# Altium footprint library EE_smallOB_BW_v1.0.PcbLib: 38 footprints (part 1 of 3)
Each footprint in its own frame and in the unit in brackets; x right, y up, seen from the top. Pads: shape width x height; smd on the part's side, far side on the other; paste and mask are expansions set on the pad; w line width, h text height; cw(c..) or ccw(c..) is an arc to the next point about the centre after c.
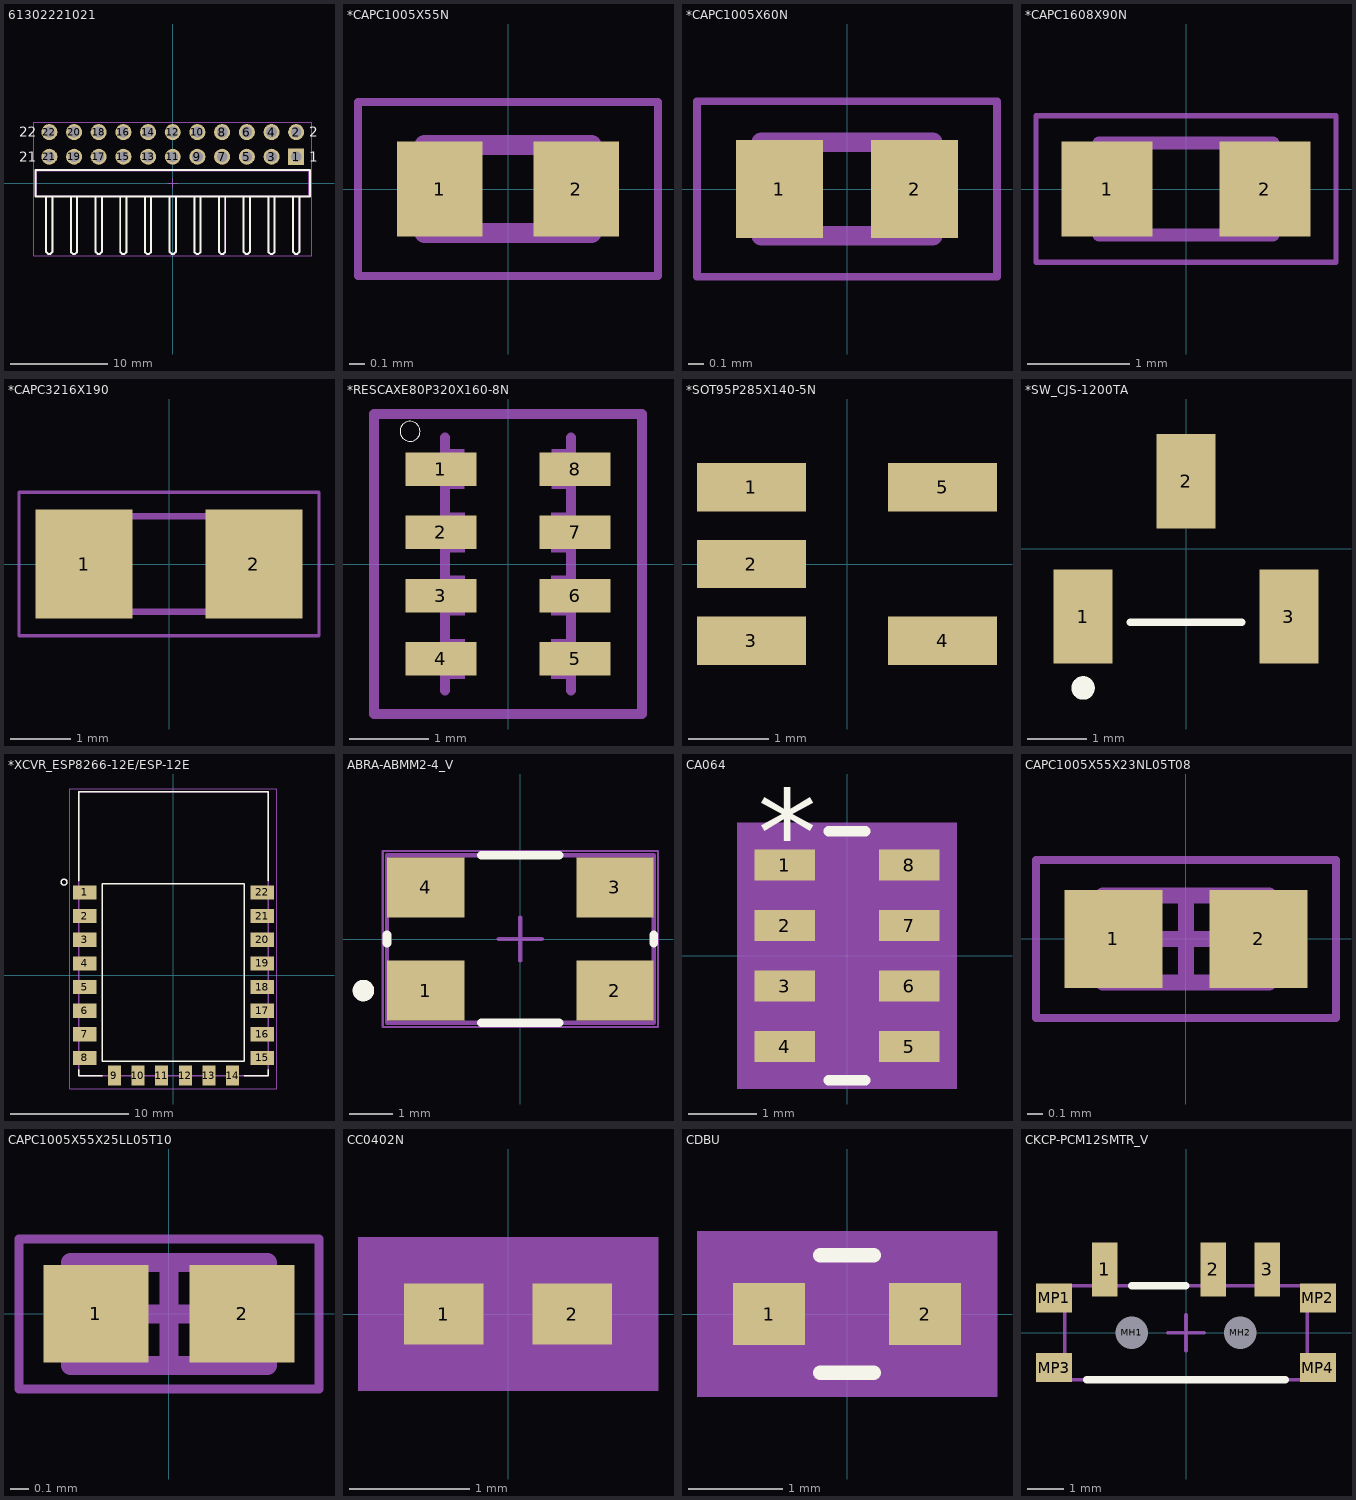
[diagram p0: the footprints below, top view; thin cyan lines are the x and y axes]

## 61302221021 [mm] "Pin Header, pitch 2.54 mm, THT, Angled, dual row, 22p"
height 5.08
pads (22):
  rect 1.65x1.65 hole 1.1: 1(12.7,2.73)
  round 1.65 hole 1.1: 2(12.7,5.27) 3(10.16,2.73) 4(10.16,5.27) 5(7.62,2.73) 6(7.62,5.27) 7(5.08,2.73) 8(5.08,5.27) 9(2.54,2.73) 10(2.54,5.27) 11(0,2.73) 12(0,5.27) 13(-2.54,2.73) 14(-2.54,5.27) 15(-5.08,2.73) 16(-5.08,5.27) 17(-7.62,2.73) 18(-7.62,5.27) 19(-10.16,2.73) 20(-10.16,5.27) 21(-12.7,2.73) 22(-12.7,5.27)
Top Overlay:
  lines w0.2: -13.02,-1.345 -13.02,-7.07 -12.82,-7.27 -12.58,-7.27 -12.38,-7.07 -12.38,-1.345 ; -10.48,-1.345 -10.48,-7.07 -10.28,-7.27 -10.04,-7.27 -9.84,-7.07 -9.84,-1.345 ; -7.94,-1.345 -7.94,-7.07 -7.74,-7.27 -7.5,-7.27 -7.3,-7.07 -7.3,-1.345 ; -5.4,-1.345 -5.4,-7.07 -5.2,-7.27 -4.96,-7.27 -4.76,-7.07 -4.76,-1.345 ; -2.86,-1.345 -2.86,-7.07 -2.66,-7.27 -2.42,-7.27 -2.22,-7.07 -2.22,-1.345 ; -0.32,-1.345 -0.32,-7.07 -0.12,-7.27 0.12,-7.27 0.32,-7.07 0.32,-1.345 ; 2.22,-1.345 2.22,-7.07 2.42,-7.27 2.66,-7.27 2.86,-7.07 2.86,-1.345 ; 4.76,-1.345 4.76,-7.07 4.96,-7.27 5.2,-7.27 5.4,-7.07 5.4,-1.345 ; 7.3,-1.345 7.3,-7.07 7.5,-7.27 7.74,-7.27 7.94,-7.07 7.94,-1.345 ; 9.84,-1.345 9.84,-7.07 10.04,-7.27 10.28,-7.27 10.48,-7.07 10.48,-1.345 ; 12.38,-1.345 12.38,-7.07 12.58,-7.27 12.82,-7.27 13.02,-7.07 13.02,-1.345 ; -14.12,-1.345 -14.12,1.345 14.12,1.345 14.12,-1.345 -14.12,-1.345
  text "21" at -15.82,2.2 h1.02
  text "22" at -15.82,4.8 h1.02
  text "1" at 14.03,2.2 h1.02
  text "2" at 14.03,4.8 h1.02
Mechanical 13:
  lines w0.1: -13.02,-1.27 -13.02,-7.07 -12.82,-7.27 -12.58,-7.27 -12.38,-7.07 -12.38,-1.27 ; -10.48,-1.27 -10.48,-7.07 -10.28,-7.27 -10.04,-7.27 -9.84,-7.07 -9.84,-1.27 ; -7.94,-1.27 -7.94,-7.07 -7.74,-7.27 -7.5,-7.27 -7.3,-7.07 -7.3,-1.27 ; -5.4,-1.27 -5.4,-7.07 -5.2,-7.27 -4.96,-7.27 -4.76,-7.07 -4.76,-1.27 ; -2.86,-1.27 -2.86,-7.07 -2.66,-7.27 -2.42,-7.27 -2.22,-7.07 -2.22,-1.27 ; -0.32,-1.27 -0.32,-7.07 -0.12,-7.27 0.12,-7.27 0.32,-7.07 0.32,-1.27 ; 2.22,-1.27 2.22,-7.07 2.42,-7.27 2.66,-7.27 2.86,-7.07 2.86,-1.27 ; 4.76,-1.27 4.76,-7.07 4.96,-7.27 5.2,-7.27 5.4,-7.07 5.4,-1.27 ; 7.3,-1.27 7.3,-7.07 7.5,-7.27 7.74,-7.27 7.94,-7.07 7.94,-1.27 ; 9.84,-1.27 9.84,-7.07 10.04,-7.27 10.28,-7.27 10.48,-7.07 10.48,-1.27 ; 12.38,-1.27 12.38,-7.07 12.58,-7.27 12.82,-7.27 13.02,-7.07 13.02,-1.27 ; -13.97,-1.27 13.97,-1.27 13.97,1.27 -13.97,1.27 -13.97,-1.27
Mechanical 15:
  lines w0.05: -0.5,0 0.5,0 ; 0,-0.5 0,0.5 ; -14.32,-7.47 -14.32,6.295 14.32,6.295 14.32,-7.47 -14.32,-7.47
3D body "61302221021.stp": height 5.12, standoff -2.96, extent -13.97,-7.27 13.97,5.63

## *CAPC1005X55N [mm]
pads (2):
  rect 0.54x0.6 smd: 1(-0.432,0) 2(0.432,0)
Mechanical 13:
  lines w0.127: -0.53,-0.28 0.53,-0.28 ; -0.53,-0.28 -0.53,0.28 ; -0.53,-0.28 0.53,-0.28 ; -0.53,-0.28 -0.53,0.28 ; -0.53,0.28 0.53,0.28 ; -0.53,0.28 0.53,0.28 ; 0.53,-0.28 0.53,0.28 ; 0.53,-0.28 0.53,0.28
Mechanical 15:
  lines w0.05: -0.95,-0.55 0.95,-0.55 0.95,0.55 -0.95,0.55 -0.95,-0.55
3D body "GRM155C80J225ME95D.STEP": height 0.45, standoff -0.05, extent -0.5,-0.275 0.5,0.275

## *CAPC1005X60N [mm]
pads (2):
  rect 0.56x0.63 smd: 1(-0.435,0) 2(0.435,0)
Mechanical 13:
  lines w0.127: -0.55,-0.3 0.55,-0.3 ; -0.55,-0.3 -0.55,0.3 ; -0.55,-0.3 0.55,-0.3 ; -0.55,-0.3 -0.55,0.3 ; -0.55,0.3 0.55,0.3 ; -0.55,0.3 0.55,0.3 ; 0.55,-0.3 0.55,0.3 ; 0.55,-0.3 0.55,0.3
Mechanical 15:
  lines w0.05: -0.965,-0.565 0.965,-0.565 0.965,0.565 -0.965,0.565 -0.965,-0.565
3D body "GRM155C80J225ME95D.STEP": height 0.45, standoff -0.05, extent -0.5,-0.275 0.5,0.275

## *CAPC1608X90N [mm]
pads (2):
  rect 0.89x0.93 smd: 1(-0.77,0) 2(0.77,0)
Mechanical 13:
  lines w0.127: -0.85,-0.45 -0.85,0.45 ; -0.85,-0.45 0.85,-0.45 ; -0.85,-0.45 -0.85,0.45 ; -0.85,-0.45 0.85,-0.45 ; -0.85,0.45 0.85,0.45 ; -0.85,0.45 0.85,0.45 ; 0.85,-0.45 0.85,0.45 ; 0.85,-0.45 0.85,0.45
Mechanical 15:
  lines w0.05: -1.465,-0.715 -1.465,0.715 1.465,0.715 1.465,-0.715 -1.465,-0.715
3D body "GRM188C80G106KE47D.STEP": height 0.78, standoff -0.02, extent -0.8,-0.4 0.8,0.4

## *CAPC3216X190 [mm]
pads (2):
  rect 1.6x1.8 smd: 1(-1.4,0) 2(1.4,0)
Mechanical 13:
  region: 0.955,0.851 1.702,0.851 1.702,-0.852 0.955,-0.852
  region: -1.705,0.849 -0.952,0.849 -0.952,-0.852 -1.705,-0.852
  region: 0.955,0.851 1.702,0.851 1.702,-0.852 0.955,-0.852
  region: -1.705,0.849 -0.952,0.849 -0.952,-0.852 -1.705,-0.852
  lines w0.102: -0.965,-0.787 0.965,-0.787 -0.965,-0.787 ; -0.965,0.787 0.965,0.787 -0.965,0.787
Mechanical 15:
  lines w0.051: -2.473,-1.183 -2.473,1.183 2.473,1.183 2.473,-1.183 -2.473,-1.183
3D body "GCM31MR71E335KA57L--3DModel-STEP-56544.STEP": height 1.56, standoff -0.04, extent -1.6,-0.625 1.6,0.625

## *RESCAXE80P320X160-8N [mm]
pads (8):
  rect 0.9x0.425 smd: 1(-0.85,1.2) 2(-0.85,0.4) 3(-0.85,-0.4) 4(-0.85,-1.2) 5(0.85,-1.2) 6(0.85,-0.4) 7(0.85,0.4) 8(0.85,1.2)
Top Overlay:
  circle w0: c-1.24,1.68 r0.127
Mechanical 13:
  region: -0.553,1.453 -0.553,0.95 -0.85,0.95 -0.85,1.453
  region: -0.55,0.65 -0.55,0.15 -0.85,0.15 -0.85,0.65
  region: -0.55,-0.15 -0.55,-0.652 -0.852,-0.652 -0.852,-0.15
  region: -0.55,-0.95 -0.55,-1.452 -0.852,-1.452 -0.852,-0.95
  region: 0.549,-1.451 0.549,-0.952 0.852,-0.952 0.852,-1.451
  region: 0.55,-0.65 0.55,-0.152 0.852,-0.152 0.852,-0.65
  region: 0.551,0.151 0.551,0.65 0.85,0.65 0.85,0.151
  region: 0.552,0.952 0.552,1.451 0.849,1.451 0.849,0.952
  region: -0.553,1.453 -0.553,0.95 -0.85,0.95 -0.85,1.453
  region: -0.55,0.65 -0.55,0.15 -0.85,0.15 -0.85,0.65
  region: -0.55,-0.15 -0.55,-0.652 -0.852,-0.652 -0.852,-0.15
  region: -0.55,-0.95 -0.55,-1.452 -0.852,-1.452 -0.852,-0.95
  region: 0.549,-1.451 0.549,-0.952 0.852,-0.952 0.852,-1.451
  region: 0.55,-0.65 0.55,-0.152 0.852,-0.152 0.852,-0.65
  region: 0.551,0.151 0.551,0.65 0.85,0.65 0.85,0.151
  region: 0.552,0.952 0.552,1.451 0.849,1.451 0.849,0.952
  lines w0.127: -0.8,-1.6 -0.8,1.6 -0.8,-1.6 ; 0.8,-1.6 0.8,1.6 0.8,-1.6
Mechanical 15:
  lines w0.127: -1.7,-1.9 -1.7,1.9 1.7,1.9 1.7,-1.9 -1.7,-1.9
3D body "cay_16-f4.stp": height 0.47, standoff -0.03, extent -0.762,-1.6 0.838,1.6

## *SOT95P285X140-5N [mm]
pads (5):
  rect 1.35x0.6 smd: 1(-1.185,0.95) 2(-1.185,0) 3(-1.185,-0.95) 4(1.185,-0.95) 5(1.185,0.95)

## *SW_CJS-1200TA [mm]
pads (3):
  rect 1x1.6 smd: 1(-1.75,-1.15) 2(0,1.15) 3(1.75,-1.15)
Top Overlay:
  circle w0.2: c-1.75,-2.365 r0.1
  lines w0.127: -0.95,-1.25 0.95,-1.25

## *XCVR_ESP8266-12E/ESP-12E [mm]
pads (22):
  rect 2x1.2 smd: 1(-7.5,7) 2(-7.5,5) 3(-7.5,3) 4(-7.5,1) 5(-7.5,-1) 6(-7.5,-3) 7(-7.5,-5) 8(-7.5,-7) 15(7.5,-7) 16(7.5,-5) 17(7.5,-3) 18(7.5,-1) 19(7.5,1) 20(7.5,3) 21(7.5,5) 22(7.5,7)
  rect 1.1x1.7 smd: 9(-5,-8.5) 10(-3,-8.5) 11(-1,-8.5) 12(1,-8.5) 13(3,-8.5) 14(5,-8.5)
Top Overlay:
  circle w0.127: c-9.25,7.875 r0.25
  lines w0.127: -8,-8 -8,-8.5 -6,-8.5 ; -8,8 -8,15.5 8,15.5 8,8 ; 6,-8.5 8,-8.5 8,-8 ; -6,-7.26 6,-7.26 6,7.74 -6,7.74 -6,-7.26
Mechanical 13:
  lines w0.127: -8,-8.5 8,-8.5 ; -8,-8.5 -8,15.5 ; -8,-8.5 8,-8.5 ; -8,-8.5 -8,15.5 ; -8,15.5 8,15.5 ; -8,15.5 8,15.5 ; 8,-8.5 8,15.5 ; 8,-8.5 8,15.5
Mechanical 15:
  lines w0.05: -8.75,-9.625 8.75,-9.625 8.75,15.75 -8.75,15.75 -8.75,-9.625

## ABRA-ABMM2-4_V [mm] "SMD, 4-Leads, Body 6.2x3.9mm, Pitch 4.4mm, Height 1.2mm"
height 1.2
pads (4):
  rect 1.8x1.4 smd: 1(-2.2,-1.2) 2(2.2,-1.2) 3(2.2,1.2) 4(-2.2,1.2)
Top Layer:
  region: -3.584,1.064
Top Overlay:
  circle w0.25: c-3.65,-1.2 r0.125
  lines w0.2: -3.1,-0.1 -3.1,0.1 ; -0.903,-1.95 0.903,-1.95 ; -0.903,1.95 0.903,1.95 ; 3.1,-0.1 3.1,0.1
Mechanical 13:
  lines w0.1: -3.1,-1.95 -3.1,1.95 3.1,1.95 3.1,-1.95 -3.1,-1.95
Mechanical 15:
  lines w0.05: -3.2,-2.05 3.2,-2.05 3.2,2.05 -3.2,2.05 -3.2,-2.05
  lines w0.1: -0.5,0 0.5,0 ; 0,-0.5 0,0.5
3D body: height 1.2, standoff 0, extent -3.1,-1.95 3.1,1.95

## CA064 [mil]
pads (8):
  rect 35x18 smd paste+0 mask+0: 1(-36,52.5) 2(-36,17.5) 3(-36,-17.5) 4(-36,-52.5) 5(36,-52.5) 6(36,-17.5) 7(36,17.5) 8(36,52.5)
Top Overlay:
  lines w6: -10.67,-72 10.67,-72 ; -10.67,72 10.67,72
  text "*" at -51.5,46.5 h50
Mechanical 5:
  region: 61,-74.5 -61,-74.5 -61,74.5 61,74.5
Mechanical 13:
  lines w0: -35.5,-40.5 ccw(c-35.5,-35) -35.5,-29.5 ; -35.5,-5.5 ccw(c-35.5,0) -35.5,5.5 ; -35.5,29.5 ccw(c-35.5,35) -35.5,40.5 ; 35.5,-40.5 cw(c35.5,-35) 35.5,-29.5 ; 35.5,-5.5 cw(c35.5,0) 35.5,5.5 ; 35.5,29.5 cw(c35.5,35) 35.5,40.5
  lines w1: -35.5,-40.5 -35.5,-64.5 -35.5,-67 35.5,-67 35.5,-64.5 35.5,-40.5 ; -35.5,-29.5 -35.5,-5.5 ; -35.5,5.5 -35.5,29.5 ; -35.5,40.5 -35.5,64.5 -35.5,67 35.5,67 35.5,64.5 35.5,40.5 ; 35.5,-29.5 35.5,-5.5 ; 35.5,5.5 35.5,29.5
  text "*" at -38,31.5 h50
Mechanical 15:
  region: 63.5,-77 -63.5,-77 -63.5,77 63.5,77
  region: 35.5,-67 -35.5,-67 -35.5,67 35.5,67
3D body: height 10, standoff 0, extent 0,0 10,10
3D body "CA064.step": height 40, standoff 0, extent -35.51,-67 35.52,67.01

## CAPC1005X55X23NL05T08 [mm] "Chip Capacitor, 2-Leads, Body 1.05x0.55mm, IPC Medium Density"
height 0.55
pads (2):
  rect 0.62x0.62 smd: 1(-0.46,0) 2(0.46,0)
Mechanical 13:
  lines w0.1: -0.525,-0.275 -0.525,0.275 0.525,0.275 0.525,-0.275 -0.525,-0.275
Mechanical 15:
  lines w0.05: -0.95,-0.5 -0.95,0.5 0.95,0.5 0.95,-0.5 -0.95,-0.5
  lines w0.1: -0.275,0 0.275,0 ; 0,-0.275 0,0.275
3D body "CAPC1005X06N.step": height 0.55, standoff 0, extent -0.525,-0.275 0.525,0.275

## CAPC1005X55X25LL05T10 [mm] "Chip Capacitor, 2-Leads, Body 1.00x0.50mm, IPC High Density"
height 0.55
pads (2):
  rect 0.56x0.52 smd: 1(-0.39,0) 2(0.39,0)
Mechanical 13:
  lines w0.1: -0.525,-0.275 0.525,-0.275 0.525,0.275 -0.525,0.275 -0.525,-0.275
Mechanical 15:
  lines w0.05: -0.8,-0.4 0.8,-0.4 0.8,0.4 -0.8,0.4 -0.8,-0.4
  lines w0.1: -0.275,0 0.275,0 ; 0,-0.275 0,0.275
3D body: height 0.55, standoff 0, extent 0.275,-0.275 0.525,0.275
3D body: height 0.55, standoff 0, extent -0.525,-0.275 -0.275,0.275
3D body: height 0.55, standoff 0, extent -0.275,-0.275 0.275,0.275

## CC0402N [mil]
pads (2):
  rect 26x20 smd paste+0 mask+0: 1(-21,0) 2(21,0)
Mechanical 5:
  region: 49,-25 -49,-25 -49,25 49,25
Mechanical 13:
  lines w1: -20,-10 -20,10 ; -20,-10 20,-10 ; -20,-10 -8,-10 -8,10 -20,10 ; -20,-10 -20,10 ; -20,10 20,10 ; 20,-10 20,10 ; 20,-10 20,10 ; 20,-10 8,-10 8,10 20,10
Mechanical 15:
  region: 44,-20 -44,-20 -44,20 44,20
  lines w6: -44,-20 44,-20 44,20 -44,20 -44,-20
3D body "CC0402N.step": height 27.99, standoff 0, extent -19.99,-9.99 20.01,10.01
3D body: height 10, standoff 0, extent 0,0 10,10

## CDBU [mil]
pads (2):
  rect 30x26 smd paste+0 mask+0: 1(-32.5,0) 2(32.5,0)
Top Overlay:
  lines w6: -11.23,-24.5 11.23,-24.5 ; -11.23,24.5 11.23,24.5
Mechanical 5:
  region: 62.5,-34.5 -62.5,-34.5 -62.5,34.5 62.5,34.5
Mechanical 13:
  circle w6: c-17.5,0 r3
  lines w0: -12,19.5 ccw(c0,19.5) 12,19.5
  lines w1: -35.5,-19.5 35.5,-19.5 35.5,19.5 -35.5,19.5 -35.5,-19.5
Mechanical 15:
  region: -45.5,-23 -57.5,-23 -57.5,23 -45.5,23 -45.5,29.5 45.5,29.5 45.5,23 57.5,23 57.5,-23 45.5,-23 45.5,-29.5 -45.5,-29.5
  lines w6: -57.5,-23 -57.5,23 -45.5,23 -45.5,29.5 45.5,29.5 45.5,23 57.5,23 57.5,-23 45.5,-23 45.5,-29.5 -45.5,-29.5 -45.5,-23 -57.5,-23
3D body "CDBU.step": height 33.11, standoff 0, extent -35.51,-19.48 35.51,19.49
3D body: height 10, standoff 0, extent 0,0 10,10

## CKCP-PCM12SMTR_V [mm] "SMD, 3-Leads, Body 6.7x2.6mm"
height 1.4
pads (9):
  rect 0.7x1.5 smd: 1(-2.25,1.75) 2(0.75,1.75) 3(2.25,1.75)
  round 0.6 hole 0.9 unplated: MH1(-1.5,0) MH2(1.5,0)
  rect 1x0.8 smd: MP1(-3.65,0.965) MP2(3.65,0.965) MP3(-3.65,-0.965) MP4(3.65,-0.965)
Top Overlay:
  lines w0.2: -2.75,-1.3 2.75,-1.3 ; -1.5,1.3 0,1.3
Mechanical 13:
  lines w0.1: -3.35,-1.3 3.35,-1.3 3.35,1.3 -3.35,1.3 -3.35,-1.3
Mechanical 15:
  lines w0.1: -0.5,0 0.5,0 ; 0,-0.5 0,0.5
3D body "User Library-pcm12smtr.STEP": height 1.4, standoff -0.5, extent -3.681,-2.344 3.673,2.23